# EAGLE library part WE-TVS-SS_MSOP-8L_82401646 (library Eagle_WE-TVS (rev22a))
WE-TVS TVS Diode – Super Speed Series Characteristics Fast turn-on Low clamping voltage Very low capacitance Rail to Rail protection Small package Epoxy flame resistant UL94-V0 Applications Super Speed data lines HDMI 1.3/1.4/2.0, DVI DisplayPort USB 3.1 Gen 1 (5Gb/s) SATA and eSATA GBit LAN Thunderbolt LVDS ESD protection in accordance with EN 61000-4-2 – 8 kV contact discharge – 15 kV air discharge SS = Super Speed <https://www.we-online.com/catalog/media/o106434v209%20Family_WE-TVS-SuperSpeed.jpg> Details see: https://www.we-online.com/catalog/en/WE-TVS-SS Details see: https://www.we-online.com/catalog/en/WE-TVS-SS Updated by Ella Wu 2021-12-16 2021(C) Wurth Elektronik
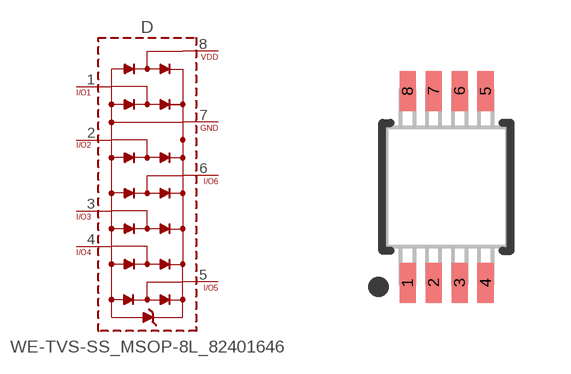
[diagram p1: symbol with the pads of WE-TVS_MSOP-8L; footprint WE-TVS_MSOP-8L]

Designator prefix D

## WE-TVS-SS_MSOP-8L_82401646 (C-CH: 0.4pF; CHANNELS: 6+1; DATASHEET-URL: https://www.we-online.com/catalog/datasheet/82401646.pdf; IPEAK: -; MOUNT: SMT; PART-NUMBER: 82401646; VALUE: 5Vdc; VBR: 6V)  [WE-TVS_MSOP-8L]
1  I/O1  pas
2  I/O2  pas
3  I/O3  pas
4  I/O4  pas
5  I/O5  pas
6  I/O6  pas
7  GND  pas
8  VDD  pas

## Footprint WE-TVS_MSOP-8L (pad centres in mm)
WE-TVS TVS Diode Size: MSOP-8L L X W X H = 4.9mm X 3mm X 0.975mm
smd 0.4 x 1: 1 -0.975,-2.4; 2 -0.325,-2.4; 3 0.325,-2.4; 4 0.975,-2.4; 5 0.975,2.4; 6 0.325,2.4; 7 -0.325,2.4; 8 -0.975,2.4